# Altium schematic symbol library ISL6236A SchLib.SchLib: 18 symbols
Pins are listed as number, name and electrical type; pins without a type are passive.

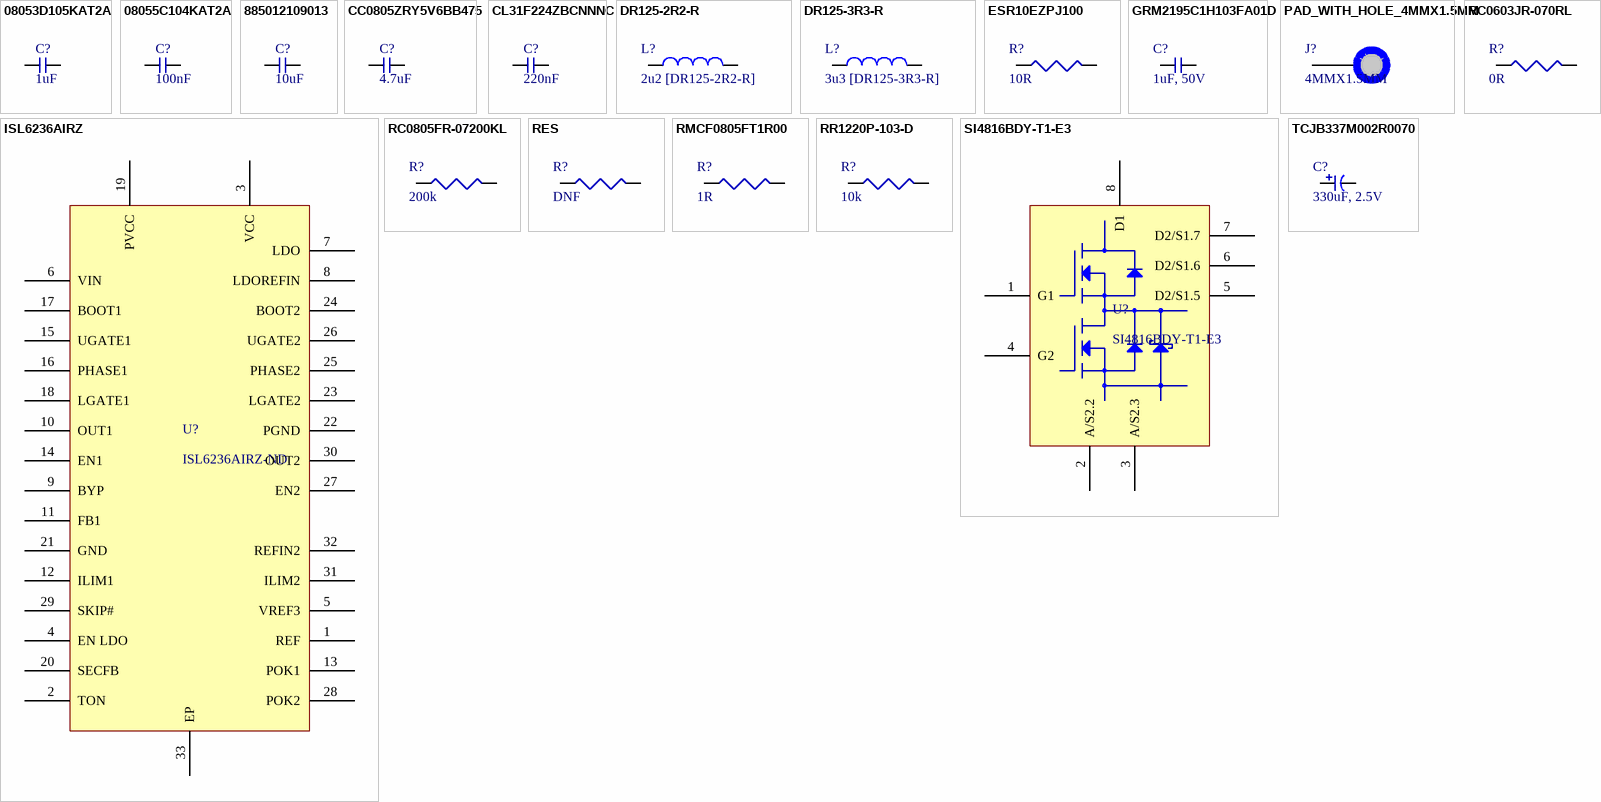
[diagram p0: symbols 08053D105KAT2A to TCJB337M002R0070]

## 08053D105KAT2A
designator C?, comment 1uF
CAP CER 1UF 25V X5R 0805; Manufacturer: AVX Corporation; Manufacturer Part Number: 08053D105KAT2A; Capacitance: 1µF; Tolerance: ±10%; Supplier 1: Digi-Key; RoHS: RoHS Compliant; Category: Capacitors; Stock 1: 85698; Pricing 1: 1=0.48, 10=0.42, 100=0.21, 250=0.168, 500=0.153, 1000=0.138 (USD); Packaging: Cut Tape (CT); Voltage - Rated: 25V; Temperature Coefficient: X5R; Mounting Type: Surface Mount, MLCC; Operating Temperature: -55°C ~ 85°C; Applications: General Purpose; Ratings: -; Package / Case: 0805 (2012 Metric); Size / Dimension: 0.079" L x 0.049" W (2.01mm x 1.25mm); Height - Seated (Max): -; Thickness (Max): 0.055" (1.40mm); Lead Spacing: -; Features: -; Lead Style: -; ComponentLink1URL: http://datasheets.avx.com/cx5r.pdf; ComponentLink1Description: http://datasheets.avx.com/cx5r.pdf; Supplier Part Number 1: 478-1409-1-ND
footprint C0805
pins: 1 "Signal GND", 2 "Signal GND"

## 08055C104KAT2A
designator C?, comment 100nF
CAP CER 0.1UF 50V X7R 0805; Manufacturer: AVX Corporation; Manufacturer Part Number: 08055C104KAT2A; Capacitance: 0.10µF; Tolerance: ±10%; Supplier 1: Digi-Key; RoHS: RoHS Compliant; Category: Capacitors; Stock 1: 6637140; Pricing 1: 1=0.1, 10=0.036, 100=0.0165, 250=0.01352, 500=0.01156, 1000=0.009 (USD); Packaging: Cut Tape (CT); Voltage - Rated: 50V; Temperature Coefficient: X7R; Mounting Type: Surface Mount, MLCC; Operating Temperature: -55°C ~ 125°C; Applications: General Purpose; Ratings: -; Package / Case: 0805 (2012 Metric); Size / Dimension: 0.079" L x 0.049" W (2.01mm x 1.25mm); Height - Seated (Max): -; Thickness (Max): 0.037" (0.94mm); Lead Spacing: -; Features: -; Lead Style: -; ComponentLink1URL: http://datasheets.avx.com/X7RDielectric.pdf; ComponentLink1Description: http://datasheets.avx.com/X7RDielectric.pdf; Supplier Part Number 1: 478-1395-1-ND
footprint C0805
pins: 1 "Signal GND", 2 "Signal GND"

## 885012109013
designator C?, comment 10uF
CAP CER 10UF 25V X5R 1210; Manufacturer: Wurth Electronics Inc; Manufacturer Part Number: 885012109013; Capacitance: 10µF; Tolerance: ±20%; Supplier 1: Digi-Key; RoHS: RoHS Compliant; Category: Capacitors; Stock 1: 940; Pricing 1: 1=0.37, 50=0.3124, 100=0.2722, 250=0.24192, 500=0.21168 (USD); Packaging: Cut Tape (CT); Voltage - Rated: 25V; Temperature Coefficient: X5R; Mounting Type: Surface Mount, MLCC; Operating Temperature: -55°C ~ 85°C; Applications: General Purpose; Ratings: -; Package / Case: 1210 (3225 Metric); Size / Dimension: 0.126" L x 0.098" W (3.20mm x 2.50mm); Height - Seated (Max): -; Thickness (Max): 0.087" (2.20mm); Lead Spacing: -; Features: -; Lead Style: -; ComponentLink1URL: http://katalog.we-online.de/pbs/datasheet/885012109013.pdf; ComponentLink1Description: http://katalog.we-online.de/pbs/datasheet/885012109013.pdf; Supplier Part Number 1: 732-7384-1-ND
footprint C1210
pins: 1 "Signal GND", 2 "Signal GND"

## CC0805ZRY5V6BB475
designator C?, comment 4.7uF
CAP CER 4.7UF 10V Y5V 0805; Manufacturer: Yageo; Manufacturer Part Number: CC0805ZRY5V6BB475; Capacitance: 4.7µF; Tolerance: -20%, +80%; Temperature Coefficient: Y5V (F); Supplier 1: Digi-Key; RoHS: RoHS Compliant; Category: Capacitors; Stock 1: 93461; Pricing 1: 1=0.1, 10=0.076, 25=0.0536, 100=0.0348, 250=0.02844, 500=0.02434, 1000=0.01896 (USD); Packaging: Cut Tape (CT); Voltage - Rated: 10V; Mounting Type: Surface Mount, MLCC; Operating Temperature: -30°C ~ 85°C; Applications: General Purpose; Ratings: -; Package / Case: 0805 (2012 Metric); Size / Dimension: 0.079" L x 0.049" W (2.00mm x 1.25mm); Height - Seated (Max): -; Thickness (Max): 0.033" (0.85mm); Lead Spacing: -; Features: -; Lead Style: -; ComponentLink1URL: http://www.yageo.com/documents/recent/UPY-GPHC_Y5V_6.3V-to-50V_6.pdf; ComponentLink1Description: http://www.yageo.com/documents/recent/UPY-GPHC_Y5V_6.3V-to-50V_6.pdf; Supplier Part Number 1: 311-1371-1-ND
footprint C0805
pins: 1 "Signal GND", 2 "Signal GND"

## CL31F224ZBCNNNC
designator C?, comment 220nF
CAP CER 0.22UF 50V Y5V 1206; Manufacturer: Samsung Electro-Mechanics America, Inc.; Manufacturer Part Number: CL31F224ZBCNNNC; Capacitance: 0.22µF; Tolerance: -20%, +80%; Temperature Coefficient: Y5V (F); Supplier 1: Digi-Key; RoHS: RoHS Compliant; Category: Capacitors; Stock 1: 8569; Pricing 1: 1=0.1, 10=0.056, 25=0.0396, 50=0.0302, 100=0.0255, 500=0.01786, 1000=0.01392 (USD); Packaging: Cut Tape (CT); Voltage - Rated: 50V; Mounting Type: Surface Mount, MLCC; Operating Temperature: -30°C ~ 85°C; Applications: General Purpose; Ratings: -; Package / Case: 1206 (3216 Metric); Size / Dimension: 0.126" L x 0.063" W (3.20mm x 1.60mm); Height - Seated (Max): -; Thickness (Max): 0.039" (1.00mm); Lead Spacing: -; Features: -; Lead Style: -; ComponentLink1URL: http://media.digikey.com/pdf/Data%20Sheets/Samsung%20PDFs/CL31F224ZBCNNNC_Spec.pdf; ComponentLink1Description: http://media.digikey.com/pdf/Data%20Sheets/Samsung%20PDFs/CL31F224ZBCNNNC_Spec.pdf; Supplier Part Number 1: 1276-2859-1-ND
footprint C1206
pins: 1 "Signal GND", 2 "Signal GND"

## DR125-2R2-R
designator L?, comment 2u2 [DR125-2R2-R]
FIXED IND 2.2UH 10.9A 4.5 MOHM; Manufacturer: Eaton; Type: Wirewound; Material - Core: Ferrite; Inductance: 2.2µH; Tolerance: ±20%; Current - Saturation: 15A; Shielding: Shielded; Frequency - Test: 100kHz; Supplier 1: Digi-Key; Manufacturer Part Number: DR125-2R2-R; RoHS: RoHS Compliant; Category: Inductors, Coils, Chokes; Stock 1: 458; Pricing 1: 1=1.82, 10=1.683, 25=1.5428, 50=1.3184, 100=1.1781, 250=1.0098 (USD); Packaging: Cut Tape (CT); Current Rating: 10.9A; DC Resistance (DCR): 4.5 mOhm; Q @ Freq: -; Frequency - Self Resonant: -; Ratings: -; Operating Temperature: -40°C ~ 125°C; Mounting Type: Surface Mount; Package / Case: Nonstandard; Size / Dimension: 0.492" L x 0.492" W (12.50mm x 12.50mm); Height - Seated (Max): 0.236" (6.00mm); ComponentLink1URL: http://www.cooperindustries.com/content/dam/public/bussmann/Electronics/Resources/product-datasheets/Bus_Elx_DS_4315_DR_Series.pdf; ComponentLink1Description: http://www.cooperindustries.com/content/dam/public/bussmann/Electronics/Resources/product-datasheets/Bus_Elx_DS_4315_DR_Series.pdf; Supplier Part Number 1: 513-1662-1-ND
footprint DR125
pins: 1 (power) "Signal GND", 2 (power) "Signal GND"

## DR125-3R3-R
designator L?, comment 3u3 [DR125-3R3-R]
FIXED IND 3.3UH 9.26A 6.3 MOHM; Manufacturer: Eaton; Type: Wirewound; Material - Core: Ferrite; Inductance: 3.3µH; Tolerance: ±20%; Current - Saturation: 12.7A; Shielding: Shielded; Frequency - Test: 100kHz; Supplier 1: Digi-Key; Manufacturer Part Number: DR125-3R3-R; RoHS: RoHS Compliant; Category: Inductors, Coils, Chokes; Stock 1: 6411; Pricing 1: 1=1.82, 10=1.683, 25=1.5428, 50=1.3184, 100=1.1781, 250=1.0098 (USD); Packaging: Cut Tape (CT); Current Rating: 9.26A; DC Resistance (DCR): 6.3 mOhm; Q @ Freq: -; Frequency - Self Resonant: -; Ratings: -; Operating Temperature: -40°C ~ 125°C; Mounting Type: Surface Mount; Package / Case: Nonstandard; Size / Dimension: 0.492" L x 0.492" W (12.50mm x 12.50mm); Height - Seated (Max): 0.236" (6.00mm); ComponentLink1URL: http://www.cooperindustries.com/content/dam/public/bussmann/Electronics/Resources/product-datasheets/Bus_Elx_DS_4315_DR_Series.pdf; ComponentLink1Description: http://www.cooperindustries.com/content/dam/public/bussmann/Electronics/Resources/product-datasheets/Bus_Elx_DS_4315_DR_Series.pdf; Supplier Part Number 1: 513-1529-1-ND
footprint DR125
pins: 1 (power) "Signal GND", 2 (power) "Signal GND"

## ESR10EZPJ100
designator R?, comment 10R
RES SMD 10 OHM 5% 0.4W 0805; Manufacturer: Rohm Semiconductor; Manufacturer Part Number: ESR10EZPJ100; Resistance (Ohms): 10; Temperature Coefficient: ±200ppm/°C; Supplier 1: Digi-Key; RoHS: RoHS Compliant; Category: Resistors; Stock 1: 48150; Pricing 1: 1=0.1, 10=0.079, 25=0.0544, 100=0.0303, 250=0.0236, 500=0.01876, 1000=0.01331 (USD); Packaging: Cut Tape (CT); Tolerance: ±5%; Power (Watts): 0.4W; Composition: Thick Film; Features: Automotive AEC-Q200, Pulse Withstanding; Operating Temperature: -55°C ~ 155°C; Package / Case: 0805 (2012 Metric); Supplier Device Package: 0805 (2012 Metric); Size / Dimension: 0.079" L x 0.049" W (2.00mm x 1.25mm); Height: 0.026" (0.65mm); Number of Terminations: 2; ComponentLink1URL: http://rohmfs.rohm.com/en/products/databook/datasheet/passive/resistor/chip_resistor/esr.pdf; ComponentLink1Description: http://rohmfs.rohm.com/en/products/databook/datasheet/passive/resistor/chip_resistor/esr.pdf; Supplier Part Number 1: RHM10KCT-ND
footprint R0805
pins: 1 (power) "Signal GND", 2 (power) "Signal GND"

## GRM2195C1H103FA01D
designator C?, comment 1uF, 50V
CAP CER 10000PF 50V NP0 0805; Manufacturer: Murata Electronics North America; Manufacturer Part Number: GRM2195C1H103FA01D; Tolerance: ±1%; Temperature Coefficient: C0G, NP0; Supplier 1: Digi-Key; RoHS: RoHS Compliant; Category: Capacitors; Stock 1: 52284; Pricing 1: 1=0.44, 10=0.385, 50=0.2338, 100=0.1925, 250=0.154, 500=0.14026, 1000=0.1265 (USD); Packaging: Cut Tape (CT); Capacitance: 10000pF; Voltage - Rated: 50V; Mounting Type: Surface Mount, MLCC; Operating Temperature: -55°C ~ 125°C; Applications: General Purpose; Ratings: -; Package / Case: 0805 (2012 Metric); Size / Dimension: 0.079" L x 0.049" W (2.00mm x 1.25mm); Height - Seated (Max): -; Thickness (Max): 0.037" (0.95mm); Lead Spacing: -; Features: -; Lead Style: -; ComponentLink1URL: http://www.murata.com/~/media/webrenewal/support/library/catalog/products/capacitor/mlcc/c02e.pdf; ComponentLink1Description: http://www.murata.com/~/media/webrenewal/support/library/catalog/products/capacitor/mlcc/c02e.pdf; Supplier Part Number 1: 490-8295-1-ND
footprint C0805
pins: 1 "Signal GND", 2 "Signal GND"

## ISL6236AIRZ
designator U?, comment ISL6236AIRZ-ND
IC MAIN PWR CTRLR QUAD 32-QFN; Manufacturer: Intersil; Voltage - Input: 4.5 V ~ 25 V; Number of Outputs: 4; Voltage - Output: Multiple; Supplier 1: Digi-Key; Manufacturer Part Number: ISL6236AIRZ; RoHS: RoHS Compliant; Category: Integrated Circuits (ICs); Stock 1: 0; Pricing 1: 600=3.818 (USD); Packaging: Tube; Applications: Controller, Notebook Power System; Operating Temperature: -40°C ~ 100°C; Mounting Type: Surface Mount; Package / Case: 32-VFQFN Exposed Pad; Supplier Device Package: 32-QFN (5x5); ComponentLink1URL: http://www.intersil.com/content/dam/Intersil/documents/isl6/isl6236a.pdf; ComponentLink1Description: http://www.intersil.com/content/dam/Intersil/documents/isl6/isl6236a.pdf; Supplier Part Number 1: ISL6236AIRZ-ND
footprint L32.5x5B
pins: 1 REF (power) "Signal GND", 2 TON (power) "Signal GND", 3 VCC (power) "Signal GND", 4 EN LDO (power) "Signal GND", 5 VREF3 (power) "Signal GND", 6 VIN (power) "Signal GND", 7 LDO (power) "Signal GND", 8 LDOREFIN (power) "Signal GND", 9 BYP (power) "Signal GND", 10 OUT1 (power) "Signal GND", 11 FB1 (power) "Signal GND", 12 ILIM1 (power) "Signal GND", 13 POK1 (power) "Signal GND", 14 EN1 (power) "Signal GND", 15 UGATE1 (power) "Signal GND", 16 PHASE1 (power) "Signal GND", 17 BOOT1 (power) "Signal GND", 18 LGATE1 (power) "Signal GND", 19 PVCC (power) "Signal GND", 20 SECFB (power) "Signal GND", 21 GND (power) "Signal GND", 22 PGND (power) "Signal GND", 23 LGATE2 (power) "Signal GND", 24 BOOT2 (power) "Signal GND", 25 PHASE2 (power) "Signal GND", 26 UGATE2 "Signal GND", 27 EN2 (power) "Signal GND", 28 POK2 (power) "Signal GND", 29 SKIP# (power) "Signal GND", 30 OUT2 (power) "Signal GND", 31 ILIM2 (power) "Signal GND", 32 REFIN2 (power) "Signal GND", 33 EP (power) "Signal GND"

## PAD_WITH_HOLE_4MMX1.5MM
designator J?, comment 4MMX1.5MM
footprint PAD_WITH_HOLE_4MMX1.5MM
pins: 1 "Signal GND"

## RC0603JR-070RL
designator R?, comment 0R
RES SMD 0.0OHM JUMPER 1/10W 0603; Manufacturer: Yageo; Manufacturer Part Number: RC0603JR-070RL; Resistance (Ohms): 0.0; Power (Watts): 0.1W, 1/10W; Supplier 1: Digi-Key; RoHS: RoHS Compliant; Category: Resistors; Stock 1: 6593569; Pricing 1: 1=0.1, 10=0.011, 25=0.008, 100=0.0045, 250=0.00348, 500=0.00278, 1000=0.00204, 2500=0.00177 (USD); Packaging: Cut Tape (CT); Tolerance: Jumper; Composition: Thick Film; Features: Moisture Resistant; Temperature Coefficient: -; Operating Temperature: -55°C ~ 155°C; Package / Case: 0603 (1608 Metric); Supplier Device Package: 0603; Size / Dimension: 0.063" L x 0.031" W (1.60mm x 0.80mm); Height: 0.022" (0.55mm); Number of Terminations: 2; ComponentLink1URL: http://www.yageo.com/documents/recent/PYu-RC_Group_51_RoHS_L_04.pdf; ComponentLink1Description: http://www.yageo.com/documents/recent/PYu-RC_Group_51_RoHS_L_04.pdf; Supplier Part Number 1: 311-0.0GRCT-ND
footprint R0603
pins: 1 (power) "Signal GND", 2 (power) "Signal GND"

## RC0805FR-07200KL
designator R?, comment 200k
RES SMD 200K OHM 1% 1/8W 0805; Manufacturer: Yageo; Manufacturer Part Number: RC0805FR-07200KL; Power (Watts): 0.125W, 1/8W; Temperature Coefficient: ±100ppm/°C; Supplier 1: Digi-Key; RoHS: RoHS Compliant; Category: Resistors; Stock 1: 636212; Pricing 1: 1=0.1, 10=0.021, 25=0.0152, 100=0.0084, 250=0.00644, 500=0.00514, 1000=0.00379, 2500=0.00329 (USD); Packaging: Cut Tape (CT); Resistance (Ohms): 200k; Tolerance: ±1%; Composition: Thick Film; Features: Moisture Resistant; Operating Temperature: -55°C ~ 155°C; Package / Case: 0805 (2012 Metric); Supplier Device Package: 0805; Size / Dimension: 0.079" L x 0.049" W (2.00mm x 1.25mm); Height: 0.024" (0.60mm); Number of Terminations: 2; ComponentLink1URL: http://www.yageo.com/documents/recent/PYu-RC_Group_51_RoHS_L_04.pdf; ComponentLink1Description: http://www.yageo.com/documents/recent/PYu-RC_Group_51_RoHS_L_04.pdf; Supplier Part Number 1: 311-200KCRCT-ND
footprint R0805
pins: 1 (power) "Signal GND", 2 (power) "Signal GND"

## RES
designator R?, comment DNF
footprint R0805
pins: 1 "Signal GND", 2 "Signal GND"

## RMCF0805FT1R00
designator R?, comment 1R
RES SMD 1 OHM 1% 1/8W 0805; Manufacturer: Stackpole Electronics Inc.; Manufacturer Part Number: RMCF0805FT1R00; Resistance (Ohms): 1; Power (Watts): 0.125W, 1/8W; Temperature Coefficient: ±200ppm/°C; Supplier 1: Digi-Key; RoHS: RoHS Compliant; Category: Resistors; Stock 1: 56878; Pricing 1: 1=0.1, 10=0.022, 50=0.0124, 100=0.0091, 250=0.00692, 500=0.00554, 1000=0.00408, 2500=0.00354 (USD); Packaging: Cut Tape (CT); Tolerance: ±1%; Composition: Thick Film; Features: Automotive AEC-Q200; Operating Temperature: -55°C ~ 155°C; Package / Case: 0805 (2012 Metric); Supplier Device Package: 0805; Size / Dimension: 0.079" L x 0.049" W (2.00mm x 1.25mm); Height: 0.026" (0.65mm); Number of Terminations: 2; ComponentLink1URL: http://www.seielect.com/Catalog/SEI-RMCF_RMCP.pdf; ComponentLink1Description: http://www.seielect.com/Catalog/SEI-RMCF_RMCP.pdf; Supplier Part Number 1: RMCF0805FT1R00CT-ND
footprint R0805
pins: 1 (power) "Signal GND", 2 (power) "Signal GND"

## RR1220P-103-D
designator R?, comment 10k
RES SMD 10K OHM 0.5% 1/10W 0805; Manufacturer: Susumu; Manufacturer Part Number: RR1220P-103-D; Power (Watts): 0.1W, 1/10W; Temperature Coefficient: ±25ppm/°C; Supplier 1: Digi-Key; RoHS: RoHS Compliant; Category: Resistors; Stock 1: 413461; Pricing 1: 1=0.1, 10=0.093, 25=0.0644, 50=0.0502, 100=0.0358, 250=0.02792, 500=0.0222, 1000=0.01575 (USD); Packaging: Cut Tape (CT); Resistance (Ohms): 10k; Tolerance: ±0.5%; Composition: Thin Film; Features: -; Operating Temperature: -55°C ~ 125°C; Package / Case: 0805 (2012 Metric); Supplier Device Package: -; Size / Dimension: 0.079" L x 0.049" W (2.00mm x 1.25mm); Height: 0.020" (0.50mm); Number of Terminations: 2; ComponentLink1URL: http://www.susumu-usa.com/pdf/RR_Data_Sheet.pdf; ComponentLink1Description: http://www.susumu-usa.com/pdf/RR_Data_Sheet.pdf; Supplier Part Number 1: RR12P10.0KDCT-ND
footprint R0805
pins: 1 (power) "Signal GND", 2 (power) "Signal GND"

## SI4816BDY-T1-E3
designator U?
MOSFET 2N-CH 30V 5.8A 8-SOIC; Manufacturer: Vishay Siliconix; FET Type: 2 N-Channel (Half Bridge); FET Feature: Logic Level Gate; Current - Continuous Drain (Id) @ 25°C: 5.8A, 8.2A; Rds On (Max) @ Id, Vgs: 18.5 mOhm @ 6.8A, 10V; Vgs(th) (Max) @ Id: 3V @ 250µA; Gate Charge (Qg) @ Vgs: 10nC @ 5V; Power - Max: 1W, 1.25W; Supplier 1: Digi-Key; Manufacturer Part Number: SI4816BDY-T1-E3; RoHS: RoHS Compliant; Category: Discrete Semiconductor Products; Stock 1: 4850; Pricing 1: 1=1.6, 10=1.439, 100=1.1541, 500=0.9486, 1000=0.78523 (USD); Packaging: Cut Tape (CT); Drain to Source Voltage (Vdss): 30V; Input Capacitance (Ciss) @ Vds: -; Operating Temperature: -55°C ~ 150°C (TJ); Mounting Type: Surface Mount; Package / Case: 8-SOIC (0.154", 3.90mm Width); Supplier Device Package: 8-SO; ComponentLink1URL: http://www.vishay.com/docs/73026/si4816bd.pdf; ComponentLink1Description: http://www.vishay.com/docs/73026/si4816bd.pdf; Supplier Part Number 1: SI4816BDY-T1-E3CT-ND
footprint SO-8
pins: 1 G1 (power) "Signal GND", 2 A/S2.2 (power) "Signal GND", 3 A/S2.3 (power) "Signal GND", 4 G2 (power) "Signal GND", 5 D2/S1.5 (power) "Signal GND", 6 D2/S1.6 (power) "Signal GND", 7 D2/S1.7 (power) "Signal GND", 8 D1 (power) "Signal GND"

## TCJB337M002R0070
designator C?, comment 330uF, 2.5V
CAP TANT POLY 330UF 2.5V 1210; Manufacturer: AVX Corporation; Manufacturer Part Number: TCJB337M002R0070; Manufacturer Size Code: B; Capacitance: 330µF; Tolerance: ±20%; ESR (Equivalent Series Resistance): 70 mOhm; Type: Molded; Lifetime @ Temp.: 2000 Hrs @ 105°C; Supplier 1: Digi-Key; RoHS: RoHS Compliant; Category: Capacitors; Stock 1: 1894; Pricing 1: 1=1.29, 10=1.081, 100=0.69, 250=0.575, 500=0.5175, 1000=0.4715 (USD); Packaging: Cut Tape (CT); Voltage - Rated: 2.5V; Operating Temperature: -55°C ~ 105°C; Mounting Type: Surface Mount; Package / Case: 1210 (3528 Metric); Size / Dimension: 0.138" L x 0.110" W (3.50mm x 2.80mm); Height - Seated (Max): 0.083" (2.10mm); Lead Spacing: -; Features: Derating Recommended, General Purpose; ComponentLink1URL: http://datasheets.avx.com/TCJ.pdf; ComponentLink1Description: http://datasheets.avx.com/TCJ.pdf; Supplier Part Number 1: 478-9421-1-ND
footprint CPOL1210TCJ
pins: 1 "Signal GND", 2 "Signal GND"